# Altium schematic symbol library Crystal_Osc.SchLib: 5 symbols
Pins are listed as number, name and electrical type; pins without a type are passive.

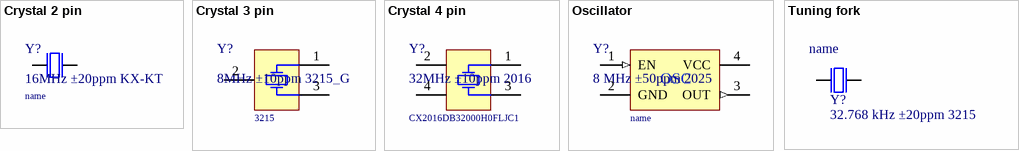
[diagram p0: symbols Crystal 2 pin to Tuning fork]

## Crystal 2 pin
designator Y?, comment 16MHz ±20ppm
Quartz crystal; Frequency: 16MHz; Tolerance: ±20ppm; Supplier: *; Manufacturer: *; BOMString: =Frequency+' '+Tolerance+' '+Footprint; HelpURL: url; Name: name
footprint KX-KT
footprint KX-327XS
footprint KX-327NHT (Footprint not found)
pins: 1 inp, 2 out

## Crystal 3 pin
designator Y?, comment 8MHz ±10ppm  Name: 3215
Quartz crystal; HelpURL: http://geyer-electronic.de/uploads/tx_userartikelfrequenz/GEYER-KX-9A_01.pdf; Supplier: *; Frequency: 8MHz; Tolerance: ±10ppm; Manufacturer: *; BOMString: =Frequency+' '+Tolerance+' '+Footprint
footprint 3215_G (Murata crystal built-in capacitors)
pins: 1 X, 2 GND (power), 3 X

## Crystal 4 pin
designator Y?, comment 32MHz ±10ppm  Name: CX2016DB32000H0FLJC1
Quartz crystal; HelpURL: http://geyer-electronic.de/uploads/tx_userartikelfrequenz/GEYER-KX-9A_01.pdf; Supplier: *; Frequency: 32MHz; Tolerance: ±10ppm; Manufacturer: *; BOMString: =Frequency+' '+Tolerance+' '+Footprint
footprint 2025
footprint 2016 (Crystal 2.0 x 1.6 mm)
footprint 5032
footprint 7050 (Crystal resonator)
footprint 3225
footprint KX-327L (GEYER 4pin crystal case, 7*1.5mm)
pins: 1 X, 2 GND (power), 3 X, 4 GND (power)

## Oscillator
designator Y?, comment 8 MHz ±50ppm
Oscillator; Frequency: 8 MHz; HelpURL: http://geyer-electronic.de/uploads/tx_userartikelfrequenz/GEYER-KX-9A_01.pdf; Supplier: *; Tolerance: ±50ppm; Manufacturer: *; BOMString: =Frequency+' '+Tolerance+' '+Footprint; Name: name
footprint 2025
footprint 2016 (Crystal 2.0 x 1.6 mm)
footprint 5032
footprint 3215; pin to pad 1>3 3>1
pins: 1 EN (in), 2 GND (power), 3 OUT (out), 4 VCC (power)
text: OSC

## Tuning fork
designator Y?, comment 32.768 kHz ±20ppm
SMD tuning fork; Frequency: 32.768 kHz; Tolerance: ±20ppm; HelpURL: http://www.ecsxtal.com/store/pdf/ecx-31b.pdf; BOMString: =Frequency+' '+Tolerance+' '+Footprint; Manufacturer: *; Supplier: *; Name: name
footprint 3215
footprint KX-327XS
footprint KX-KT
pins: 1 inp, 2 out